# EAGLE library part TR_NMOS_IRF7103 (library akita)
Dual nMOS, SOP8, IOR IRF7103, Fairchild NDS9936
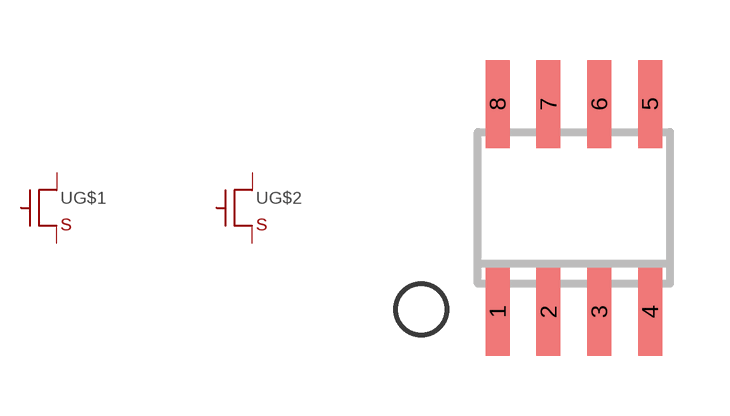
[diagram p197: symbol with the pads of SO08; footprint SO08]

Designator prefix U; gates G$1=TR_NMOS G$2=TR_NMOS

## TR_NMOS_IRF7103  [SO08]
1  G$1:S
2  G$1:G
3  G$2:S
4  G$2:G
5  G$2:D
7  G$1:D

## Footprint SO08 (pad centres in mm)
SMALL OUTLINE INTEGRATED CIRCUIT body 3.9 mm/JEDEC MS-012AA
smd 0.6 x 2.2: 1 -1.905,-2.6; 2 -0.635,-2.6; 3 0.635,-2.6; 4 1.905,-2.6; 5 1.905,2.6; 6 0.635,2.6; 7 -0.635,2.6; 8 -1.905,2.6